# Altium schematic symbol library Schlib1.SchLib: 1 symbol
Pins are listed as number, name and electrical type; pins without a type are passive.

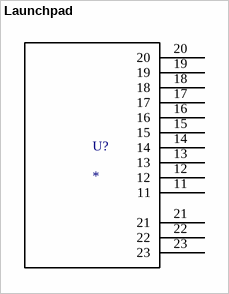
[diagram p0: symbol Launchpad]

## Launchpad
designator U?
pins: 11, 12, 13, 14, 15, 16, 17, 18, 19, 20, 21, 22, 23